# EAGLE library part MAX1037EKA (library bucket)
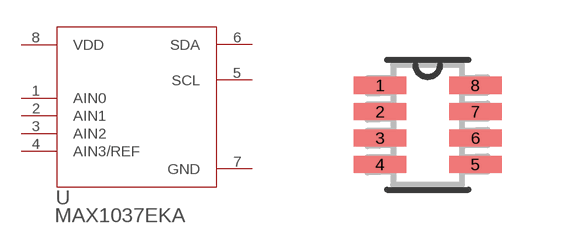
[diagram p4: symbol with the pads of 21-0078H; footprint 21-0078H]

Designator prefix U

## MAX1037EKA (DESCRIPTION: Analog to Digital Converters - ADC 2.7V to 5.5V, Low-Power, 4-/12-Channel 2-Wire Serial 8-Bit ADCs; MF: Maxim Integrated; MP: MAX1037EKA; PACKAGE: SOT-8 Maxim)  [21-0078H]
1  AIN0
2  AIN1
3  AIN2
4  AIN3/REF
5  SCL
6  SDA
7  GND  pwr
8  VDD  pwr

## Footprint 21-0078H (pad centres in mm)
smd 1.321 x 0.432: 1 -1.194,0.991; 2 -1.194,0.33; 3 -1.194,-0.33; 4 -1.194,-0.991; 5 1.194,-0.991; 6 1.194,-0.33; 7 1.194,0.33; 8 1.194,0.991